# Altium schematic symbol library 3V3 Voltage Regulators.SchLib: 3 symbols
Pins are listed as number, name and electrical type; pins without a type are passive.

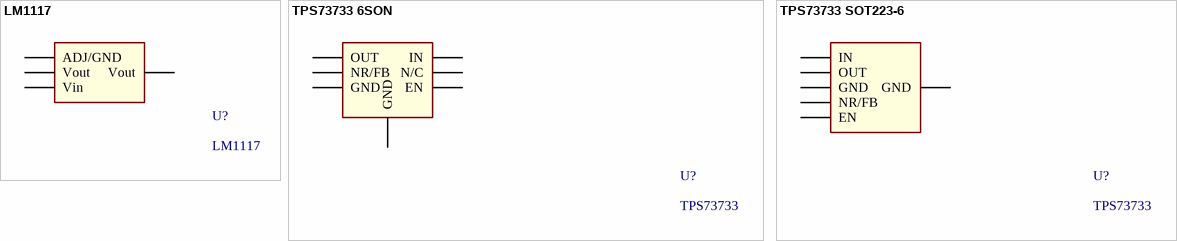
[diagram p0: symbols LM1117 to TPS73733 SOT223-6]

## LM1117
designator U?
Linear Voltage Regulator IC Positive Fixed 1 Output 3.3V 1A SOT-223; Manufacturer 1: Diodes Incorporated; Manufacturer 1 PN: AZ1117EH-3.3TRG1; Manufacturer 2 PN: LD1117S33TR; Notes: Every PMIC named 1117 is the same; Manufacturer 2: STMicroelectronics; Digikey PN: AZ1117EH-3.3TRG1DICT-ND; Mouser PN: 621-AZ1117EH-3.3TRG1; ComponentLink1Description: Datasheet; ComponentLink1URL: https://www.diodes.com/assets/Datasheets/AZ1117E.pdf
footprint LM1117 (SOT223, 4-Leads, Body 6,50x7,00mm (avg), Pitch 2,30mm, IPC Medium Density)
pins: 1 ADJ/GND (power), 2 Vout (power), 3 Vin (power), 4 Vout (power)

## TPS73733 6SON
designator U?, comment TPS73733
Linear Voltage Regulator IC Positive Fixed 1 Output  1A 6-SON (2x2); Manufacturer 1: Texas Instruments; Manufacturer 1 PN: TPS73733DRVR; ComponentLink1Description: Datasheet; ComponentLink1URL: http://www.ti.com/lit/ds/symlink/tps737.pdf; Digikey PN: 296-40960-1-ND; Mouser PN: 595-TPS73733DRVR
footprint TPS73733 6SON 2mm x 2mm (Linear Voltage Regulator IC Positive Fixed 1 Output  1A 6-SON (2x2))
pins: 1 OUT (power), 2 NR/FB (power), 3 GND (power), 4 EN (power), 5 N/C (power), 6 IN (power), 7 GND (power)

## TPS73733 SOT223-6
designator U?, comment TPS73733
Linear Voltage Regulator IC Positive Fixed 1 Output 3.3V 1A SOT-223-6; Manufacturer 1: Texas Instruments; Manufacturer 1 PN: TPS73733DCQR; ComponentLink1Description: Datasheet; ComponentLink1URL: http://www.ti.com/lit/ds/symlink/tps737.pdf; Digikey PN: 296-22681-1-ND; Mouser PN: 595-TPS73733DCQR
footprint TPS73733 (Linear Voltage Regulator IC Positive Fixed 1 Output 3.3V 1A SOT-223-6)
pins: 1 GND (power), 2 IN (power), 3 OUT (power), 4 GND (power), 5 NR/FB (power), 6 EN (power)